# EAGLE library part 74S20N (library EW_IC_74_Logic)
4 input NAND. Category: Gates Manufacturer: Generic
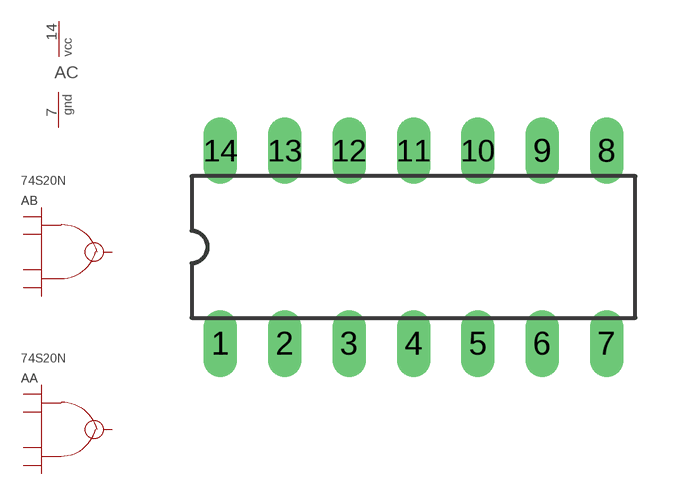
[diagram p260: symbol with the pads of DIL14; footprint DIL14]

Designator prefix A; gates A=NAND_4 B=NAND_4 C=PWRN

## 74S20N  [DIL14]
1  A:A  pwr
2  A:B  pwr
4  A:C  pwr
5  A:D  pwr
6  A:Y  pwr
7  C:GND  pwr
8  B:Y  pwr
9  B:A  pwr
10  B:B  pwr
12  B:C  pwr
13  B:D  pwr
14  C:VCC  pwr

## Footprint DIL14 (pad centres in mm)
SOCKET Dual In Line
drill 0.813 long: 1 -7.62,-3.81; 2 -5.08,-3.81; 3 -2.54,-3.81; 4 0,-3.81; 5 2.54,-3.81; 6 5.08,-3.81; 7 7.62,-3.81; 8 7.62,3.81; 9 5.08,3.81; 10 2.54,3.81; 11 0,3.81; 12 -2.54,3.81; 13 -5.08,3.81; 14 -7.62,3.81